# Altium schematic symbol library IC - MAX15062AATA+T.SchLib: 1 symbol
Pins are listed as number, name and electrical type; pins without a type are passive.

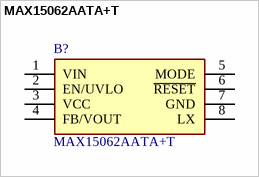
[diagram p0: symbol MAX15062AATA+T]

## MAX15062AATA+T
designator B?
Step-Down 60V, 300mA, Ultra-Small, High-Efficiency, Synchronous  DC-DC Converters; Manufacturer_Name: Analog Devices; Geometry.Height: 0.8mm; Mouser Part Number: 700-MAX15062AATA+T; Mouser Price/Stock: https://www.mouser.co.uk/ProductDetail/Analog-Devices-Maxim-Integrated/MAX15062AATA%2bT?qs=ffX8NcjNb2RbIuhbYBH8PA%3D%3D; Manufacturer_Part_Number: MAX15062AATA+T; Datasheet Link: https://www.analog.com/MAX15062/datasheet; Supplier 1: Mouser; Supplier Part Number 1: 700-MAX15062AATA+T
footprint 8-TDFN - ANALOG
pins: 1 VIN, 2 EN/UVLO, 3 VCC, 4 FB/VOUT, 5 MODE, 6 ~{RESET}, 7 GND, 8 LX